# Altium footprint library 1206-3P.PcbLib: 1 footprints
Each footprint in its own frame and in the unit in brackets; x right, y up, seen from the top. Pads: shape width x height; smd on the part's side, far side on the other; paste and mask are expansions set on the pad; w line width, h text height; cw(c..) or ccw(c..) is an arc to the next point about the centre after c.
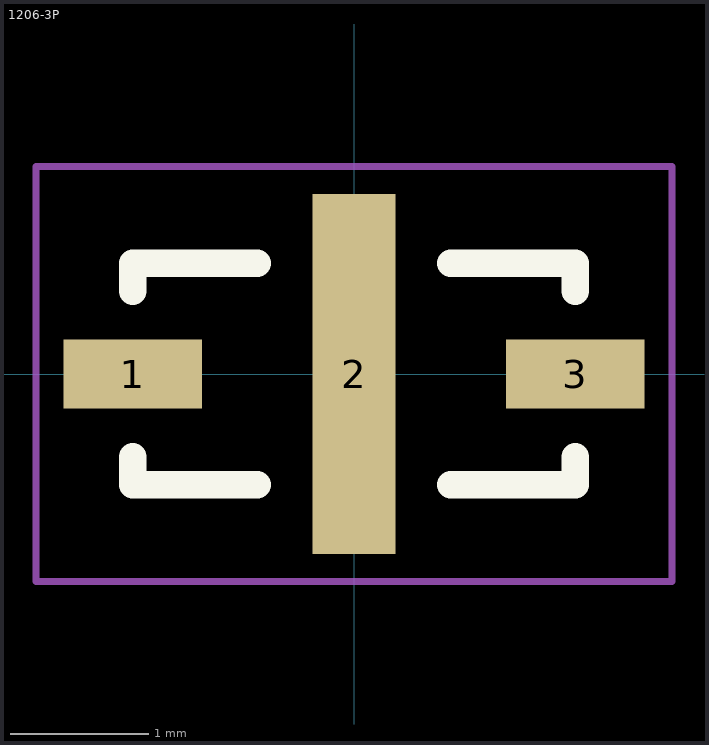
[diagram p0: the footprint, top view; thin cyan lines are the x and y axes]

## 1206-3P [mm]
pads (3):
  rect 1x0.5 smd: 1(-1.6,0) 3(1.6,0)
  rect 0.6x2.6 smd: 2(0,0)
Top Overlay:
  lines w0.2: -1.6,-0.6 -1.6,-0.8 -0.7,-0.8 ; -1.6,0.6 -1.6,0.8 -0.7,0.8 ; 0.7,-0.8 1.6,-0.8 1.6,-0.6 ; 0.7,0.8 1.6,0.8 1.6,0.6
Mechanical 15:
  lines w0.05: -2.3,-1.5 -2.3,1.5 2.3,1.5 2.3,-1.5 -2.3,-1.5
3D body: height 2.3, standoff 0, extent -1.7,-0.9 1.7,0.9